# Altium schematic symbol library Power.SchLib: 28 symbols
Pins are listed as number, name and electrical type; pins without a type are passive.

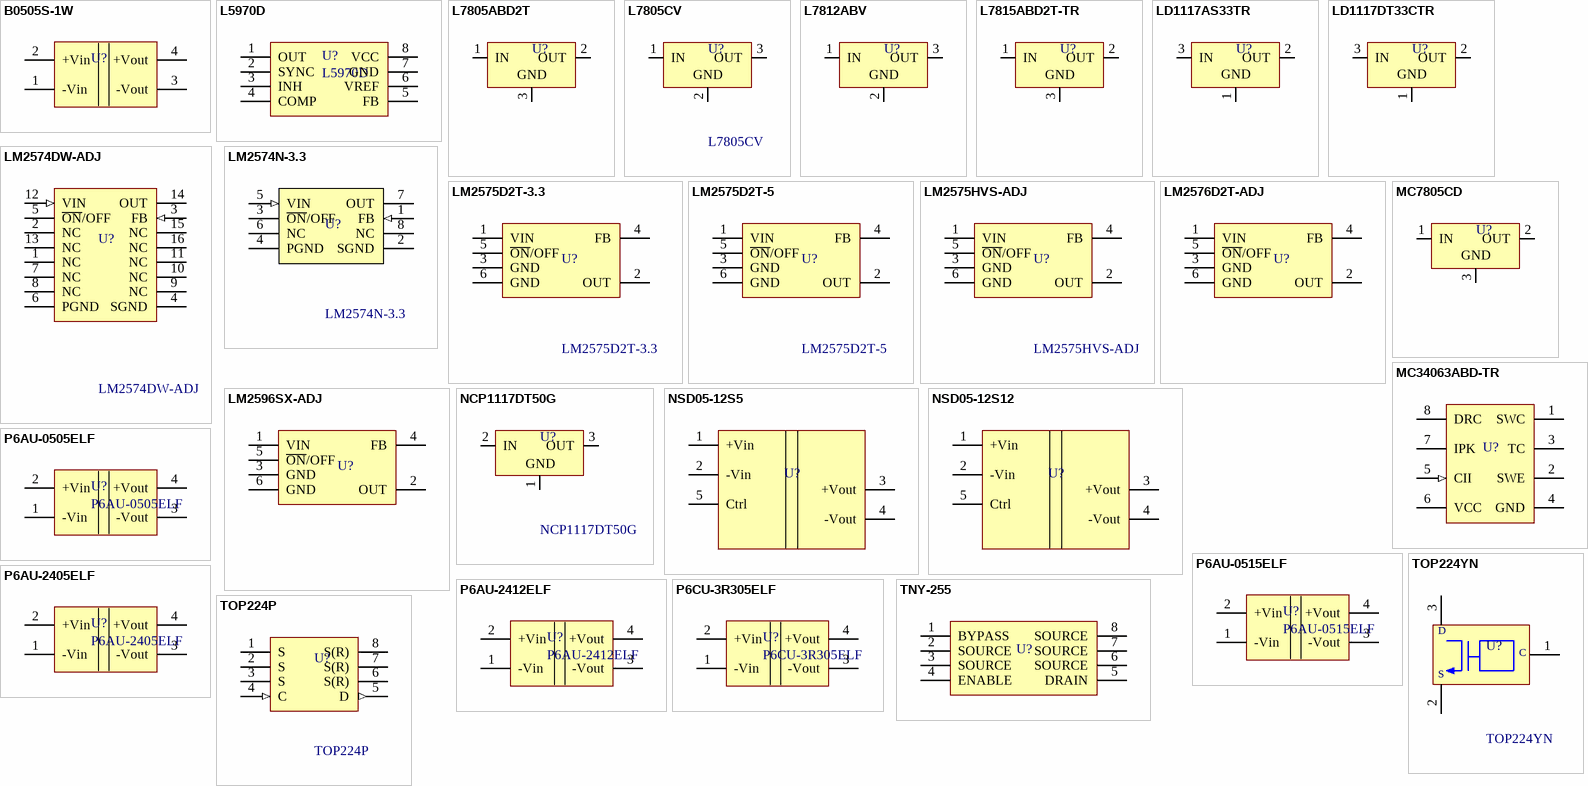
[diagram p0: symbols B0505S-1W to TOP224YN]

## B0505S-1W
designator U?
DC/DC converter
footprint SIP4
pins: 1 -Vin (power), 2 +Vin (power), 3 -Vout (power), 4 +Vout (power)

## L5970D
designator U?
Up to 1A step down switching regulator
footprint SO-8_L (SOIC, 8-Leads, Body 4.9x3.9mm, Pitch 1.27mm, IPC High Density)
footprint SO-8_M (SOIC, 8-Leads, Body 4.9x3.9mm, Pitch 1.27mm, IPC Low Density)
footprint SO-8_N (SOIC, 8-Leads, Body 4.9x3.9mm, Pitch 1.27mm, IPC Medium Density)
pins: 1 OUT "1", 2 SYNC "2", 3 INH "3", 4 COMP "4", 5 FB "5", 6 VREF (power) "6", 7 GND (power) "7", 8 VCC (power) "8"

## L7805ABD2T
designator U?
Voltage Regulators
footprint D2PAK_3p (D2-PAK; 5 Leads; Body 14.7 (inc. leads) x 10.2 mm (LxW max))
pins: 1 IN (power), 2 OUT (power), 3 GND (power)

## L7805CV
designator U?
Precision 1A Regulator; Published: 24-Aug-2001; LatestRevisionDate: 17-Jul-2002; LatestRevisionNote: Re-released for DXP Platform.; DatasheetVersion: Nov-1999; PackageVersion: Jun-1998; PackageReference: TO220ABN; Publisher: Altium Limited; PackageDescription: TO, Thru-Hole, Vertical, Heatsink Mounted; 3 In-Line Leads; Pitch 2.54 mm; Pin sequence 1, 3, 2; ComponentLink1Description: Manufacturer Link; ComponentLink1URL: http://www.st.com/; ComponentLink2Description: Datasheet; ComponentLink2URL: http://www.st.com/stonline/products/literature/ds/2144/l7805ab.pdf
footprint TO-220A (TO, Thru-Hole, Vertical, Heatsink Mounted; 3 In-Line Leads; Pitch 2.54 mm)
footprint TO-220A_VR (TO, Thru-Hole, Vertical, Heatsink Mounted; 3 In-Line Leads; Pitch 2.54 mm)
pins: 1 IN (power), 2 GND (power), 3 OUT (power)

## L7812ABV
designator U?
Precision 1A Regulator; Published: 24-Aug-2001; LatestRevisionDate: 17-Jul-2002; LatestRevisionNote: Re-released for DXP Platform.; DatasheetVersion: Nov-1999; PackageVersion: Jun-1998; PackageReference: TO220ABN; Publisher: Altium Limited; PackageDescription: TO, Thru-Hole, Vertical, Heatsink Mounted; 3 In-Line Leads; Pitch 2.54 mm; Pin sequence 1, 3, 2; ComponentLink1Description: Manufacturer Link; ComponentLink1URL: http://www.st.com/; ComponentLink2Description: Datasheet; ComponentLink2URL: http://www.st.com/stonline/products/literature/ds/2144/l7805ab.pdf
footprint TO-220A (TO, Thru-Hole, Vertical, Heatsink Mounted; 3 In-Line Leads; Pitch 2.54 mm)
pins: 1 IN (power), 2 GND (power), 3 OUT (power)

## L7815ABD2T-TR
designator U?
Voltage Regulators
footprint D2PAK_3p (D2-PAK; 5 Leads; Body 14.7 (inc. leads) x 10.2 mm (LxW max))
pins: 1 IN (power), 2 OUT (power), 3 GND (power)

## LD1117AS33TR
designator U?
Voltage Regulators 800mA
footprint SOT-223_L (SOT223, 4-Leads, Body 6.5x3.5mm, Pitch 2.3mm, Lead Span 7mm, IPC High Density)
footprint SOT-223_M (SOT223, 4-Leads, Body 6.5x3.5mm, Pitch 2.3mm, Lead Span 7mm, IPC Low Density)
footprint SOT-223_N (SOT223, 4-Leads, Body 6.5x3.5mm, Pitch 2.3mm, Lead Span 7mm, IPC Medium Density)
pins: 1 GND (power), 2 OUT (power), 3 IN (power)

## LD1117DT33CTR
designator U?
Voltage Regulators
footprint TO-252_L (D-PAK, 4-Leads, Body 6.1x6.5mm, Pitch 2.28mm, Lead Span 9.7mm, IPC High Density)
footprint TO-252_M (D-PAK, 4-Leads, Body 6.1x6.5mm, Pitch 2.28mm, Lead Span 9.7mm, IPC Low Density)
footprint TO-252_N (D-PAK, 4-Leads, Body 6.1x6.5mm, Pitch 2.28mm, Lead Span 9.7mm, IPC Medium Density)
pins: 1 GND (power), 2 OUT (power), 3 IN (power)

## LM2574DW-ADJ
designator U?
Easy Switcher 0.5A Step-Down Voltage Regulator; Published: 15-Apr-2002; LatestRevisionDate: 13-Apr-2006; LatestRevisionNote: IPC-7351 Footprint Added.; DatasheetVersion: Jul-1999; PackageVersion: Jul-1999; PackageReference: 751G-03; Publisher: Altium Limited; PackageDescription: 16-Pin Small Outline Integrated Circuit 1.27 mm Pitch; ComponentLink1Description: Manufacturer Link; ComponentLink1URL: http://www.onsemi.com/site/products/taxonomy/0,4438,503,00.html; ComponentLink2Description: Datasheet; ComponentLink2URL: http://www.onsemi.com/pub/Collateral/LM2574-D.PDF
footprint SO-16 WB_L (SOIC, 16-Leads, Body 10.3x7.5mm, Pitch 1.27mm, IPC High Density)
footprint SO-16 WB_M (SOIC, 16-Leads, Body 10.3x7.5mm, Pitch 1.27mm, IPC Low Density)
footprint SO-16 WB_N (SOIC, 16-Leads, Body 10.3x7.5mm, Pitch 1.27mm, IPC Medium Density)
footprint DIP-8 (8-Pin Plastic Dual In-Line Package (PDIP))
pins: 1 NC, 2 NC, 3 FB (in), 4 SGND (power), 5 ~{ON}/OFF, 6 PGND (power), 7 NC, 8 NC, 9 NC, 10 NC, 11 NC, 12 VIN (in), 13 NC, 14 OUT (oe), 15 NC, 16 NC

## LM2574N-3.3
designator U?
Easy Switcher 0.5A Step-Down Voltage Regulator; Published: 15-Apr-2002; DatasheetVersion: Jul-1999; PackageVersion: 1998; PackageReference: 626-05; Publisher: Altium Limited; PackageDescription: DIP; 8 Leads; Row Spacing 7.62 mm; Pitch 2.54 mm; ComponentLink1Description: Manufacturer Link; ComponentLink1URL: http://www.onsemi.com/site/products/taxonomy/0,4438,503,00.html; ComponentLink2Description: Datasheet; ComponentLink2URL: http://www.onsemi.com/pub/Collateral/LM2574-D.PDF
footprint DIP-8 (8-Pin Plastic Dual In-Line Package (PDIP))
footprint SO-16 WB_L (SOIC, 16-Leads, Body 10.3x7.5mm, Pitch 1.27mm, IPC High Density)
footprint SO-16 WB_M (SOIC, 16-Leads, Body 10.3x7.5mm, Pitch 1.27mm, IPC Low Density)
footprint SO-16 WB_N (SOIC, 16-Leads, Body 10.3x7.5mm, Pitch 1.27mm, IPC Medium Density)
pins: 1 FB (in), 2 SGND (power), 3 ~{ON}/OFF, 4 PGND (power), 5 VIN (in), 6 NC, 7 OUT (oe), 8 NC

## LM2575D2T-3.3
designator U?
Easy Switcher 1.0A Step-Down Voltage Regulator
footprint D2PAK_5p (D2-PAK; 5 Leads; Body 14.7 (inc. leads) x 10.2 mm (LxW max))
pins: 1 VIN (power), 2 OUT (oe), 3 GND (power), 4 FB, 5 ~{ON}/OFF, 6 GND (power)

## LM2575D2T-5
designator U?
Easy Switcher 1.0A Step-Down Voltage Regulator; Note: Pin 3 is electrically connected to Pin 6;Pin 6 is heatsink; Published: 15-Apr-2002; DatasheetVersion: Jul-1999; PackageVersion: Jul-1999; PackageReference: 936A-02; Publisher: Altium Limited; PackageDescription: D2-PAK; 5 Leads; Body 14.7 (inc. leads) x 10.2 mm (LxW max); ComponentLink1Description: Manufacturer Link; ComponentLink1URL: http://www.onsemi.com/site/products/taxonomy/0,4438,503,00.html; ComponentLink2Description: Datasheet; ComponentLink2URL: http://www.onsemi.com/pub/Collateral/LM2575-D.PDF
footprint D2PAK (D2-PAK; 5 Leads; Body 14.7 (inc. leads) x 10.2 mm (LxW max))
pins: 1 VIN (power), 2 OUT (oe), 3 GND (power), 4 FB, 5 ~{ON}/OFF, 6 GND (power)

## LM2575HVS-ADJ
designator U?
Easy Switcher 1.0A Step-Down Voltage Regulator
footprint D2PAK_5p (D2-PAK; 5 Leads; Body 14.7 (inc. leads) x 10.2 mm (LxW max))
pins: 1 VIN (power), 2 OUT (oe), 3 GND (power), 4 FB, 5 ~{ON}/OFF, 6 GND (power)

## LM2576D2T-ADJ
designator U?
Easy Switcher 3.0A Step-Down Voltage Regulator
footprint D2PAK_5p (D2-PAK; 5 Leads; Body 14.7 (inc. leads) x 10.2 mm (LxW max))
pins: 1 VIN (power), 2 OUT (oe), 3 GND (power), 4 FB, 5 ~{ON}/OFF, 6 GND (power)

## LM2596SX-ADJ
designator U?
Easy Switcher 3.0A Step-Down Voltage Regulator
footprint D2PAK_5p (D2-PAK; 5 Leads; Body 14.7 (inc. leads) x 10.2 mm (LxW max))
pins: 1 VIN (power), 2 OUT (oe), 3 GND (power), 4 FB, 5 ~{ON}/OFF, 6 GND (power)

## MC7805CD
designator U?
Voltage Regulators
footprint TO-252_L (D-PAK, 4-Leads, Body 6.1x6.5mm, Pitch 2.28mm, Lead Span 9.7mm, IPC High Density)
footprint TO-252_M (D-PAK, 4-Leads, Body 6.1x6.5mm, Pitch 2.28mm, Lead Span 9.7mm, IPC Low Density)
footprint TO-252_N (D-PAK, 4-Leads, Body 6.1x6.5mm, Pitch 2.28mm, Lead Span 9.7mm, IPC Medium Density)
pins: 1 IN (power), 2 OUT (power), 3 GND (power)

## MC34063ABD-TR
designator U?
DC/DC converter control circuit, 8-Pin SO, Tape and Reel; DatasheetVersion: Nov-2007; PackageVersion: Dec-2002; PackageReference: SO8; PackageDescription: 8-Pin Small Outline Integrated Circuit 1.27 mm Pitch; Code_JEDEC: MS-012-AA; Code_IPC: SOIC127P600-8; ComponentLink1Description: Manufacturer URL; ComponentLink1URL: http://www.st.com; ComponentLink2Description: Datasheet; ComponentLink2URL: http://www.st.com/internet/com/TECHNICAL_RESOURCES/TECHNICAL_LITERATURE/DATASHEET/CD00001232.pdf; ComponentLink3Description: Package Specification; ComponentLink3URL: http://www.st.com/internet/com/TECHNICAL_RESOURCES/TECHNICAL_LITERATURE/PACKAGE_INFORMATION/CD00004680.pdf
footprint SO-8_L (SOIC, 8-Leads, Body 4.9x3.9mm, Pitch 1.27mm, IPC High Density)
footprint SO-8_M (SOIC, 8-Leads, Body 4.9x3.9mm, Pitch 1.27mm, IPC Low Density)
footprint SO-8_N (SOIC, 8-Leads, Body 4.9x3.9mm, Pitch 1.27mm, IPC Medium Density)
pins: 1 SWC (oc), 2 SWE (oe), 3 TC, 4 GND (power), 5 CII (in), 6 VCC (power), 7 IPK, 8 DRC (oc)

## NCP1117DT50G
designator U?
Voltage Regulators
footprint TO-252_L (D-PAK, 4-Leads, Body 6.1x6.5mm, Pitch 2.28mm, Lead Span 9.7mm, IPC High Density)
footprint TO-252_M (D-PAK, 4-Leads, Body 6.1x6.5mm, Pitch 2.28mm, Lead Span 9.7mm, IPC Low Density)
footprint TO-252_N (D-PAK, 4-Leads, Body 6.1x6.5mm, Pitch 2.28mm, Lead Span 9.7mm, IPC Medium Density)
pins: 1 GND (power), 2 IN (power), 3 OUT (power)

## NSD05-12S5
designator U?
DC/DC Regulated Single Output
footprint NSD05 (5W DC-DC Regulated Single Output)
pins: 1 +Vin (power), 2 -Vin (power), 3 +Vout (power), 4 -Vout (power), 5 Ctrl

## NSD05-12S12
designator U?
DC/DC Regulated Single Output
footprint NSD05 (5W DC-DC Regulated Single Output)
pins: 1 +Vin (power), 2 -Vin (power), 3 +Vout (power), 4 -Vout (power), 5 Ctrl

## P6AU-0505ELF
designator U?
footprint SIP4
pins: 1 -Vin (power), 2 +Vin (power), 3 -Vout (power), 4 +Vout (power)

## P6AU-0515ELF
designator U?
footprint SIP4
pins: 1 -Vin (power), 2 +Vin (power), 3 -Vout (power), 4 +Vout (power)

## P6AU-2405ELF
designator U?
footprint SIP4
pins: 1 -Vin (power), 2 +Vin (power), 3 -Vout (power), 4 +Vout (power)

## P6AU-2412ELF
designator U?
footprint SIP4
pins: 1 -Vin (power), 2 +Vin (power), 3 -Vout (power), 4 +Vout (power)

## P6CU-3R305ELF
designator U?
footprint SIP7
pins: 1 -Vin (power), 2 +Vin (power), 3 -Vout (power), 4 +Vout (power)

## TNY-255
designator U?
Low Power Off-line Switchers
footprint DIP-8 (8-Pin Plastic Dual In-Line Package (PDIP))
footprint SMD-8
pins: 1 BYPASS, 2 SOURCE, 3 SOURCE, 4 ENABLE, 5 DRAIN, 6 SOURCE, 7 SOURCE, 8 SOURCE

## TOP224P
designator U?
PWM Switch
footprint DIP-8 (8-Pin Plastic Dual In-Line Package (PDIP))
pins: 1 S (power), 2 S (power), 3 S (power), 4 C (in), 5 D (out), 6 S(R) (power), 7 S(R) (power), 8 S(R) (power)

## TOP224YN
designator U?
PWM Switch
footprint TO-220A (TO, Thru-Hole, Vertical, Heatsink Mounted; 3 In-Line Leads; Pitch 2.54 mm)
pins: 1 C (power), 2 S (power), 3 D (power)